# EAGLE library part R4 (library display-r2)
Resistor array with 4 isolated resistors. CTS_741 rated at 63 mW per resistor
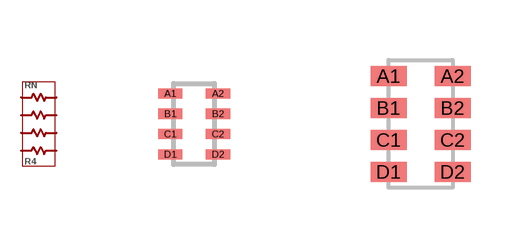
[diagram p3: symbol with the pads of CTS_741-4; footprints CTS_741-4, CTS_742-4]

Designator prefix RN

## R4_741  [CTS_741-4]
A1  A1  pas
A2  A2  pas
B1  B1  pas
B2  B2  pas
C1  C1  pas
C2  C2  pas
D1  D1  pas
D2  D2  pas

## R4_742C  [CTS_742-4]
Pads as for CTS_741-4

## R4_CAY16  [CAY16]
Pads as for CTS_741-4

## Footprint CTS_741-4 (pad centres in mm)
4 resistor array package 2mm x 1mm CTS brand
smd 0.61 x 0.254: A1 -0.597,0.762; A2 0.597,0.762; B1 -0.597,0.254; B2 0.597,0.254; C1 -0.597,-0.254; C2 0.597,-0.254; D1 -0.597,-0.762; D2 0.597,-0.762

## Footprint CTS_742-4 (pad centres in mm)
1.6 x 3.2mm .8mm pitch resistor pack http://www.ctscorp.com/components/Datasheets/CTSChipArrayDs.pdf
smd 0.9 x 0.5: A1 -0.8,1.2; A2 0.8,1.2; B1 -0.8,0.4; B2 0.8,0.4; C1 -0.8,-0.4; C2 0.8,-0.4; D1 -0.8,-1.2; D2 0.8,-1.2

## Footprint CAY16 (pad centres in mm)
Bourns convex pad resistor array 1206 size 4 isolated resistors http://www.bourns.com/docs/Product-Datasheets/CATCAY.pdf
smd 0.9 x 0.425: A1 -0.85,1.2; A2 0.85,1.2; B1 -0.85,0.4; B2 0.85,0.4; C1 -0.85,-0.4; C2 0.85,-0.4; D1 -0.85,-1.2; D2 0.85,-1.2